# EAGLE library part EH_S6B-EH (library CASE-JST)
JST EH Connector, through hole, 6 pin, side entry Description: JST EH connector with 2.5 mm pitch, through hole version, 6 pin, side entry. Links: Datasheet <http://www.jst-mfg.com/product/pdf/eng/eEH.pdf>
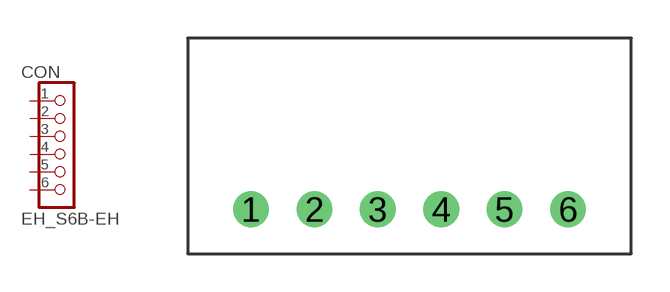
[diagram p14: symbol with the pads of S6B-EH; footprint S6B-EH]

Designator prefix CON

## EH_S6B-EH  [S6B-EH]
1  1  pas
2  2  pas
3  3  pas
4  4  pas
5  5  pas
6  6  pas

## Footprint S6B-EH (pad centres in mm)
JST S6B-EH Datasheet <http://www.jst-mfg.com/product/pdf/eng/eEH.pdf>
drill 0.9: 1 -6.25,0; 2 -3.75,0; 3 -1.25,0; 4 1.25,0; 5 3.75,0; 6 6.25,0